# Altium schematic symbol library SiLabs Microcontroller 8-Bit 8051.SchLib: 120 symbols (part 6 of 9)
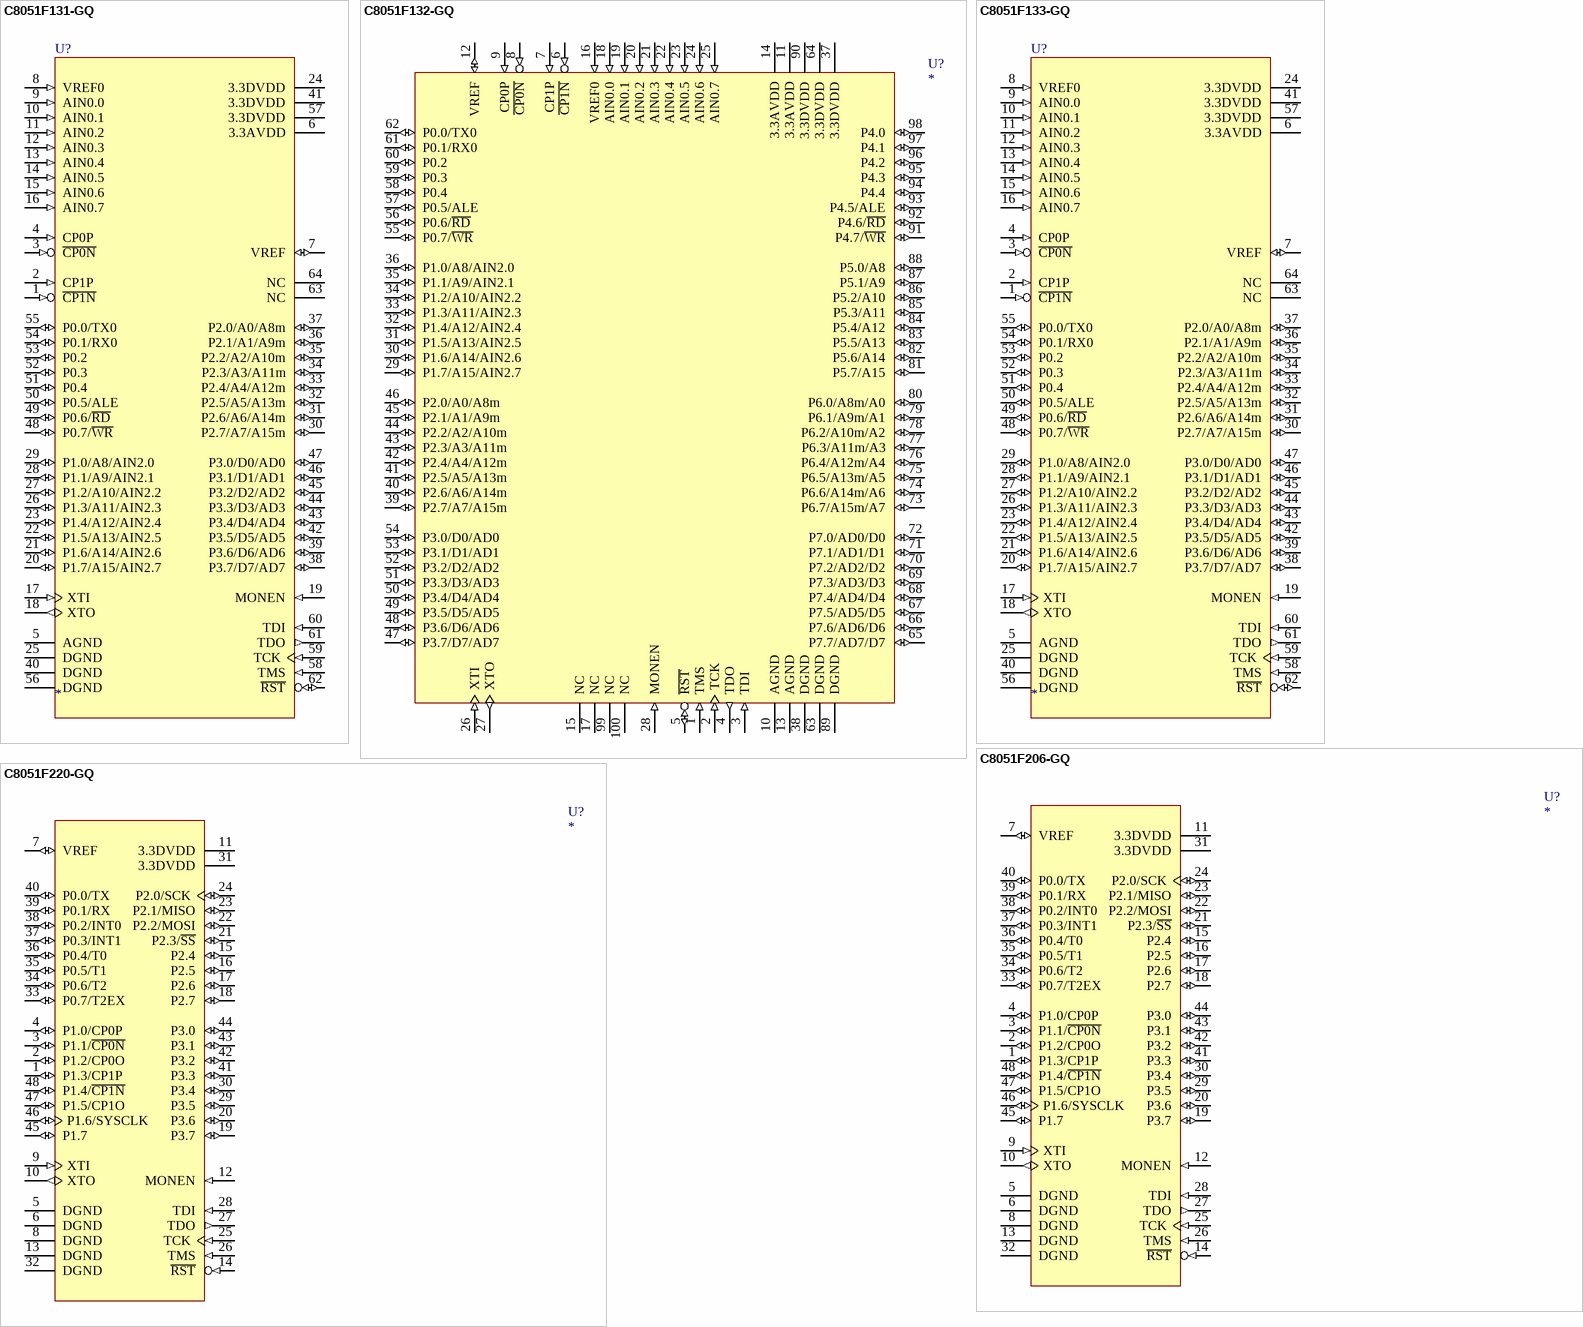
[diagram p19: symbols C8051F131-GQ to C8051F220-GQ]

## C8051F131-GQ
designator U?
8051 Microcontroller, 100MIPS, 16x16MAC, 128KiB Flash, 256Byte RAM + 8KiB XRAM, 64KiB EMIF, Internal Oscillator, 5-16bit Timer, 8CH 100ksps 10bit ADC, 2 UART, I2C, SPI, PCA, 2 Comparator, 32GPIO.; Manufacture: Silicon Laboratories; Compliant: RoHS; CompliantInformationSource: Silicon Laboratries; PackageDocument: 2005-12; TempertureRange: Industrial (-40 to +85Cel); ComponentLink1Description: Manufacture Link; ComponentLink1URL: http://www.silabs.com/; ComponentLink2Description: Datasheet; ComponentLink2URL: https://www.silabs.com/Support Documents/TechnicalDocs/C8051F12x-13x.pdf; DatasheetDocument: Rev. 1.4, 2005-12; PackageReference: TQFP-64; Published: 2006-02-21; Publisher: A and A System Co., Ltd.; DigiKeyPartNumber: 336-1233-ND
footprint TQFP-64/e0.5 (TQFP-64; Body Width 12mm; Pitch 0.5mm)
pins: 1 ~{CP1N} (in) "Comparator 1 Inverting Input.", 2 CP1P (in) "Comparator 1 Non-Inverting Input.", 3 ~{CP0N} (in) "Comparator 0 Inverting Input.", 4 CP0P (in) "Comparator 0 Non-Inverting Input.", 5 AGND (power) "Analog Ground. Must be tied to Ground.", 6 3.3AVDD (power) "Analog Supply Voltage. Must be tied to +2.7 to +3.6 V.", 7 VREF (io) "Bandgap Voltage Reference Output (all devices). DAC Voltage Reference Input (C8051F121/3/5/7 only).", 8 VREF0 (in) "ADC0 Voltage Reference Input.", 9 AIN0.0 (in) "ADC0 Input Channel 0 (See ADC0 Specification for complete description).", 10 AIN0.1 (in) "ADC0 Input Channel 1 (See ADC0 Specification for complete description).", 11 AIN0.2 (in) "ADC0 Input Channel 2 (See ADC0 Specification for complete description).", 12 AIN0.3 (in) "ADC0 Input Channel 3 (See ADC0 Specification for complete description).", 13 AIN0.4 (in) "ADC0 Input Channel 4 (See ADC0 Specification for complete description).", 14 AIN0.5 (in) "ADC0 Input Channel 5 (See ADC0 Specification for complete description).", 15 AIN0.6 (in) "ADC0 Input Channel 6 (See ADC0 Specification for complete description).", 16 AIN0.7 (in) "ADC0 Input Channel 7 (See ADC0 Specification for complete description).", 17 XTI (in) "Crystal Input. This pin is the return for the internal oscillator circuit for a crystal or ceramic resonator. For a precision internal clock, connect a crystal or ceramic resonator from XTAL1 to XTAL2. If overdriven by an external CMOS clock, this become", 18 XTO (out) "Crystal Output. This pin is the excitation driver for a crystal or ceramic resonator.", 19 MONEN (in) "VDD Monitor Enable. When tied high, this pin enables the internal VDD monitor, which forces a system reset when VDD is < VRST. When tied low, the internal VDD monitor is disabled. This pin must be tied high or low.", 20 P1.7/A15/AIN2.7 (io) "Port 1.7. See Port Input/Output section for complete description.", 21 P1.6/A14/AIN2.6 (io) "Port 1.6. See Port Input/Output section for complete description.", 22 P1.5/A13/AIN2.5 (io) "Port 1.5. See Port Input/Output section for complete  !description.", 23 P1.4/A12/AIN2.4 (io) "Port 1.4. See Port Input/Output section for complete description.", 24 3.3DVDD (power) "Digital Supply Voltage. Must be tied to +2.7 to +3.6 V.", 25 DGND (power) "Digital Ground. Must be tied to Ground.", 26 P1.3/A11/AIN2.3 (io) "Port 1.3. See Port Input/Output section for complete description.", 27 P1.2/A10/AIN2.2 (io) "Port 1.2. See Port Input/Output section for complete description.", 28 P1.1/A9/AIN2.1 (io) "Port 1.1. See Port Input/Output section for complete description.", 29 P1.0/A8/AIN2.0 (io) "ADC2 Input Channel 0 (See ADC2 Specification for complete description). Bit 8 External Memory Address bus (Non-multiplexed  mode)  Port 1.0 See Port Input/Output section for complete description.", 30 P2.7/A7/A15m (io) "Port 2.7. See Port Input/Output section for complete description.", 31 P2.6/A6/A14m (io) "Port 2.6. See Port Input/Output section for complete description.", 32 P2.5/A5/A13m (io) "Port 2.5. See Port Input/Output section for complete description.", 33 P2.4/A4/A12m (io) "Port 2.4. See Port Input/Output section for complete description.", 34 P2.3/A3/A11m (io) "Port 2.3. See Port Input/Output section for complete description.", 35 P2.2/A2/A10m (io) "Port 2.2. See Port Input/Output section for complete description.", 36 P2.1/A1/A9m (io) "Port 2.1. See Port Input/Output section for complete description.", 37 P2.0/A0/A8m (io) "Port 2.0. Bit 8 External Memory Address bus (Multiplexed mode) Bit 0 External Memory Address bus (Non-multiplexed mode) See Port Input/Output section for complete description.", 38 P3.7/D7/AD7 (io) "Port 3.7. See Port Input/Output section for complete description.", 39 P3.6/D6/AD6 (io) "OPort 3.6. See Port Input/Output section for complete description.", 40 DGND (power) "Digital Ground. Must be tied to Ground.", 41 3.3DVDD (power) "Digital Supply Voltage. Must be tied to +2.7 to +3.6 V.", 42 P3.5/D5/AD5 (io) "Port 3.5. See Port Input/Output section for complete description.", 43 P3.4/D4/AD4 (io) "OPort 3.4. See Port Input/Output section for complete description.", 44 P3.3/D3/AD3 (io) "OPort 3.3. See Port Input/Output section for complete description.", 45 P3.2/D2/AD2 (io) "OPort 3.2. See Port Input/Output section for complete description.", 46 P3.1/D1/AD1 (io) "OPort 3.1. See Port Input/Output section for complete description.", 47 P3.0/D0/AD0 (io) "Port 3.0. Bit 0 External Memory Address/Data bus (Multiplexed  mode)  Bit 0 External Memory Data bus (Non-multiplexed  mode) See Port Input/Output section for complete description.", 48 P0.7/~{WR} (io) "Port 0.7, WR Strobe for External Memory Address bus. See Port Input/Output section for complete description.", 49 P0.6/~{RD} (io) "Port 0.6, RD Strobe for External Memory Address bus. See Port Input/Output section for complete description.", 50 P0.5/ALE (io) "Port 0.5. ALE Strobe for External Memory Address bus (multiplexed mode) See Port Input/Output section for complete description.", 51 P0.4 (io) "Port 0.4. See Port Input/Output section for complete description.", 52 P0.3 (io) "Port 0.3. See Port Input/Output section for complete description.", 53 P0.2 (io) "Port 0.2. See Port Input/Output section for complete description.", 54 P0.1/RX0 (io) "Port 0.1. See Port Input/Output section for complete description.", 55 P0.0/TX0 (io) "Port 0.0. See Port Input/Output section for complete description.", 56 DGND (power) "Digital Ground. Must be tied to Ground.", 57 3.3DVDD (power) "Digital Supply Voltage. Must be tied to +2.7 to +3.6 V.", 58 TMS (in) "JTAG Test Mode Select with internal pullup.", 59 TCK (in) "JTAG Test Clock with internal pullup.", 60 TDI (in) "JTAG Test Data Input with internal pullup.TDI is latched on the rising edge of TCK.", 61 TDO (out) "JTAG Test Data Output with internal pullup. Data is shifted out on TDO on the falling edge of TCK.  TDO output is a tri-state driver.", 62 ~{RST} (io) "Device Reset. Open-drain output of internal VDD monitor. Is driven low when VDD is < VRST and  MONEN is high. An external source can initiate  a system reset by driving this pin low.", 63 NC "No Connection.", 64 NC "No Connection."

## C8051F132-GQ
designator U?
8051 Microcontroller, 100MIPS, 16x16MAC, 64KiB Flash, 256Byte RAM + 8KiB XRAM, 64KiB EMIF, Internal Oscillator, 5-16bit Timer, 8CH 100ksps 10bit ADC, 2 UART, I2C, SPI, PCA, 2 Comparator, 64GPIO.; Manufacture: Silicon Laboratories; Compliant: RoHS; CompliantInformationSource: Silicon Laboratries; PackageDocument: 2005-12; TempertureRange: Industrial (-40 to +85Cel); ComponentLink1Description: Manufacture Link; ComponentLink1URL: http://www.silabs.com/; ComponentLink2Description: Datasheet; ComponentLink2URL: https://www.silabs.com/Support Documents/TechnicalDocs/C8051F12x-13x.pdf; DatasheetDocument: Rev. 1.4, 2005-12; PackageReference: TQFP-100; Published: 2006-02-21; Publisher: A and A System Co., Ltd.; DigiKeyPartNumber: 336-1234-ND
footprint TQFP-100/e0.5 (TQFP-100; Body Width 16mm; Pitch 0.5mm)
pins: 1 TMS (in) "JTAG Test Mode Select with internal pullup.", 2 TCK (in) "JTAG Test Clock with internal pullup.", 3 TDI (in) "JTAG Test Data Input with internal pullup.TDI is latched on the rising edge of TCK.", 4 TDO (out) "JTAG Test Data Output with internal pullup. Data is shifted out on TDO on the falling edge of TCK.  TDO output is a tri-state driver.", 5 ~{RST} (io) "Device Reset. Open-drain output of internal VDD monitor. Is driven low when VDD is < VRST and  MONEN is high. An external source can initiate  a system reset by driving this pin low.", 6 ~{CP1N} (in) "Comparator 1 Inverting Input.", 7 CP1P (in) "Comparator 1 Non-Inverting Input.", 8 ~{CP0N} (in) "Comparator 0 Inverting Input.", 9 CP0P (in) "Comparator 0 Non-Inverting Input.", 10 AGND (power) "Analog Ground. Must be tied to Ground.", 11 3.3AVDD (power) "Analog Supply Voltage. Must be tied to +2.7 to +3.6 V.", 12 VREF (io) "Bandgap Voltage Reference Output (all devices). DAC Voltage Reference Input (C8051F121/3/5/7 only).", 13 AGND (power) "Analog Ground. Must be tied to Ground.", 14 3.3AVDD (power) "Analog Supply Voltage. Must be tied to +2.7 to +3.6 V.", 15 NC, 16 VREF0 (in) "ADC0 Voltage Reference Input.", 17 NC, 18 AIN0.0 (in) "ADC0 Input Channel 0 (See ADC0 Specification for complete description).", 19 AIN0.1 (in) "ADC0 Input Channel 1 (See ADC0 Specification for complete description).", 20 AIN0.2 (in) "ADC0 Input Channel 2 (See ADC0 Specification for complete description).", 21 AIN0.3 (in) "ADC0 Input Channel 3 (See ADC0 Specification for complete description).", 22 AIN0.4 (in) "ADC0 Input Channel 4 (See ADC0 Specification for complete description).", 23 AIN0.5 (in) "ADC0 Input Channel 5 (See ADC0 Specification for complete description).", 24 AIN0.6 (in) "ADC0 Input Channel 6 (See ADC0 Specification for complete description).", 25 AIN0.7 (in) "ADC0 Input Channel 7 (See ADC0 Specification for complete description).", 26 XTI (in) "Crystal Input. This pin is the return for the internal oscillator circuit for a crystal or ceramic resonator. For a precision internal clock, connect a crystal or ceramic resonator from XTAL1 to XTAL2. If overdriven by an external CMOS clock, this become", 27 XTO (out) "Crystal Output. This pin is the excitation driver for a crystal or ceramic resonator.", 28 MONEN (in) "VDD Monitor Enable. When tied high, this pin enables the internal VDD monitor, which forces a system reset when VDD is < VRST. When tied low, the internal VDD monitor is disabled. This pin must be tied high or low.", 29 P1.7/A15/AIN2.7 (io) "Port 1.7. See Port Input/Output section for complete description.", 30 P1.6/A14/AIN2.6 (io) "Port 1.6. See Port Input/Output section for complete description.", 31 P1.5/A13/AIN2.5 (io) "Port 1.5. See Port Input/Output section for complete  !description.", 32 P1.4/A12/AIN2.4 (io) "Port 1.4. See Port Input/Output section for complete description.", 33 P1.3/A11/AIN2.3 (io) "Port 1.3. See Port Input/Output section for complete description.", 34 P1.2/A10/AIN2.2 (io) "Port 1.2. See Port Input/Output section for complete description.", 35 P1.1/A9/AIN2.1 (io) "Port 1.1. See Port Input/Output section for complete description.", 36 P1.0/A8/AIN2.0 (io) "ADC2 Input Channel 0 (See ADC2 Specification for complete description). Bit 8 External Memory Address bus (Non-multiplexed  mode)  Port 1.0 See Port Input/Output section for complete description.", 37 3.3DVDD (power) "Digital Supply Voltage. Must be tied to +2.7 to +3.6 V.", 38 DGND (power) "Digital Ground. Must be tied to Ground.", 39 P2.7/A7/A15m (io) "Port 2.7. See Port Input/Output section for complete description.", 40 P2.6/A6/A14m (io) "Port 2.6. See Port Input/Output section for complete description.", 41 P2.5/A5/A13m (io) "Port 2.5. See Port Input/Output section for complete description.", 42 P2.4/A4/A12m (io) "Port 2.4. See Port Input/Output section for complete description.", 43 P2.3/A3/A11m (io) "Port 2.3. See Port Input/Output section for complete description.", 44 P2.2/A2/A10m (io) "Port 2.2. See Port Input/Output section for complete description.", 45 P2.1/A1/A9m (io) "Port 2.1. See Port Input/Output section for complete description.", 46 P2.0/A0/A8m (io) "Port 2.0. Bit 8 External Memory Address bus (Multiplexed mode) Bit 0 External Memory Address bus (Non-multiplexed mode) See Port Input/Output section for complete description.", 47 P3.7/D7/AD7 (io) "Port 3.7. See Port Input/Output section for complete description.", 48 P3.6/D6/AD6 (io) "OPort 3.6. See Port Input/Output section for complete description.", 49 P3.5/D5/AD5 (io) "Port 3.5. See Port Input/Output section for complete description.", 50 P3.4/D4/AD4 (io) "OPort 3.4. See Port Input/Output section for complete description.", 51 P3.3/D3/AD3 (io) "OPort 3.3. See Port Input/Output section for complete description.", 52 P3.2/D2/AD2 (io) "OPort 3.2. See Port Input/Output section for complete description.", 53 P3.1/D1/AD1 (io) "OPort 3.1. See Port Input/Output section for complete description.", 54 P3.0/D0/AD0 (io) "Port 3.0. Bit 0 External Memory Address/Data bus (Multiplexed  mode)  Bit 0 External Memory Data bus (Non-multiplexed  mode) See Port Input/Output section for complete description.", 55 P0.7/~{WR} (io) "Port 0.7. WR Strobe for External Memory Address bus. See Port Input/Output section for complete description.", 56 P0.6/~{RD} (io) "Port 0.6. RD Strobe for External Memory Address bus. See Port Input/Output section for complete description.", 57 P0.5/ALE (io) "Port 0.5. ALE Strobe for External Memory Address bus (multiplexed mode) See Port Input/Output section for complete description.", 58 P0.4 (io) "Port 0.4. See Port Input/Output section for complete description.", 59 P0.3 (io) "Port 0.3. See Port Input/Output section for complete description.", 60 P0.2 (io) "Port 0.2. See Port Input/Output section for complete description.", 61 P0.1/RX0 (io) "Port 0.1. See Port Input/Output section for complete description.", 62 P0.0/TX0 (io) "Port 0.0. See Port Input/Output section for complete description.", 63 DGND (power) "Digital Ground. Must be tied to Ground.", 64 3.3DVDD (power) "Digital Supply Voltage. Must be tied to +2.7 to +3.6 V.", 65 P7.7/AD7/D7 (io) "Port 7.7. See Port Input/Output section for complete description.", 66 P7.6/AD6/D6 (io) "Port 7.6. See Port Input/Output section for complete description.", 67 P7.5/AD5/D5 (io) "Port 7.5. See Port Input/Output section for complete description.", 68 P7.4/AD4/D4 (io) "Port 7.4. See Port Input/Output section for complete description.", 69 P7.3/AD3/D3 (io) "Port 7.3. See Port Input/Output section for complete description.", 70 P7.2/AD2/D2 (io) "Port 7.2. See Port Input/Output section for complete description.", 71 P7.1/AD1/D1 (io) "Port 7.1. See Port Input/Output section for complete description.", 72 P7.0/AD0/D0 (io) "Port 7.0. Bit 0 External Memory Address/Data bus (Multiplexed mode) Bit 0 External Memory Data bus (Non-multiplexed mode) See Port Input/Output section for complete description.", 73 P6.7/A15m/A7 (io) "Port 6.7. See Port Input/Output section for complete description.", 74 P6.6/A14m/A6 (io) "Port 6.6. See Port Input/Output section for complete description.", 75 P6.5/A13m/A5 (io) "Port 6.5. See Port Input/Output section for complete description.", 76 P6.4/A12m/A4 (io) "Port 6.4. See Port Input/Output section for complete description.", 77 P6.3/A11m/A3 (io) "Port 6.3. See Port Input/Output section for complete description.", 78 P6.2/A10m/A2 (io) "Port 6.2. See Port Input/Output section for complete description.", 79 P6.1/A9m/A1 (io) "Port 6.1. See Port Input/Output section for complete description.", 80 P6.0/A8m/A0 (io) "Port6.0. Bit 8 External Memory Address bus (Multiplexed mode) Bit 0 External Memory Address bus (Non-multiplexed mode) See Port Input/Output section for complete description.", 81 P5.7/A15 (io) "Port 5.7. See Port Input/Output section for complete description.", 82 P5.6/A14 (io) "Port 5.6. See Port Input/Output section for complete description.", 83 P5.5/A13 (io) "Port 5.5. See Port Input/Output section for complete description.", 84 P5.4/A12 (io) "Port 5.4. See Port Input/Output section for complete description.", 85 P5.3/A11 (io) "Port 5.3. See Port Input/Output section for complete description.", 86 P5.2/A10 (io) "Port 5.2. See Port Input/Output section for complete description.", 87 P5.1/A9 (io) "Port 5.1. See Port Input/Output section for complete description.", 88 P5.0/A8 (io) "Port 5.0. Bit 8 External Memory Address bus (Non-multiplexed mode) See Port Input/Output section for complete description.", 89 DGND (power) "Digital Ground. Must be tied to Ground.", 90 3.3DVDD (power) "Digital Supply Voltage. Must be tied to +2.7 to +3.6 V.", 91 P4.7/~{WR} (io) "Port 4.7. WR Strobe for External Memory Address bus. See Port Input/Output section for complete description.", 92 P4.6/~{RD} (io) "P4.6. RD Strobe for External Memory Address bus. See Port Input/Output section for complete description.", 93 P4.5/ALE (io) "Port 4.5, ALE Strobe for External Memory Address bus (multiplexed mode) See Port Input/Output section for complete description.", 94 P4.4 (io) "Port 4.4. See Port Input/Output section for complete description.", 95 P4.3 (io) "Port 4.3. See Port Input/Output section for complete description.", 96 P4.2 (io) "Port 4.2. See Port Input/Output section for complete description.", 97 P4.1 (io) "Port 4.1. See Port Input/Output section for complete description.", 98 P4.0 (io) "Port 4.0. See Port Input/Output section for complete description.", 99 NC, 100 NC

## C8051F133-GQ
designator U?
8051 Microcontroller, 100MIPS, 16x16MAC, 64KiB Flash, 256Byte RAM + 8KiB XRAM, 64KiB EMIF, Internal Oscillator, 5-16bit Timer, 8CH 100ksps 10bit ADC, 2 UART, I2C, SPI, PCA, 2 Comparator, 32GPIO.; Manufacture: Silicon Laboratories; Compliant: RoHS; CompliantInformationSource: Silicon Laboratries; PackageDocument: 2005-12; TempertureRange: Industrial (-40 to +85Cel); ComponentLink1Description: Manufacture Link; ComponentLink1URL: http://www.silabs.com/; ComponentLink2Description: Datasheet; ComponentLink2URL: https://www.silabs.com/Support Documents/TechnicalDocs/C8051F12x-13x.pdf; DatasheetDocument: Rev. 1.4, 2005-12; PackageReference: TQFP-64; Published: 2006-02-21; Publisher: A and A System Co., Ltd.; DigiKeyPartNumber: 336-1235-ND
footprint TQFP-64/e0.5 (TQFP-64; Body Width 12mm; Pitch 0.5mm)
pins: 1 ~{CP1N} (in) "Comparator 1 Inverting Input.", 2 CP1P (in) "Comparator 1 Non-Inverting Input.", 3 ~{CP0N} (in) "Comparator 0 Inverting Input.", 4 CP0P (in) "Comparator 0 Non-Inverting Input.", 5 AGND (power) "Analog Ground. Must be tied to Ground.", 6 3.3AVDD (power) "Analog Supply Voltage. Must be tied to +2.7 to +3.6 V.", 7 VREF (io) "Bandgap Voltage Reference Output (all devices). DAC Voltage Reference Input (C8051F121/3/5/7 only).", 8 VREF0 (in) "ADC0 Voltage Reference Input.", 9 AIN0.0 (in) "ADC0 Input Channel 0 (See ADC0 Specification for complete description).", 10 AIN0.1 (in) "ADC0 Input Channel 1 (See ADC0 Specification for complete description).", 11 AIN0.2 (in) "ADC0 Input Channel 2 (See ADC0 Specification for complete description).", 12 AIN0.3 (in) "ADC0 Input Channel 3 (See ADC0 Specification for complete description).", 13 AIN0.4 (in) "ADC0 Input Channel 4 (See ADC0 Specification for complete description).", 14 AIN0.5 (in) "ADC0 Input Channel 5 (See ADC0 Specification for complete description).", 15 AIN0.6 (in) "ADC0 Input Channel 6 (See ADC0 Specification for complete description).", 16 AIN0.7 (in) "ADC0 Input Channel 7 (See ADC0 Specification for complete description).", 17 XTI (in) "Crystal Input. This pin is the return for the internal oscillator circuit for a crystal or ceramic resonator. For a precision internal clock, connect a crystal or ceramic resonator from XTAL1 to XTAL2. If overdriven by an external CMOS clock, this become", 18 XTO (out) "Crystal Output. This pin is the excitation driver for a crystal or ceramic resonator.", 19 MONEN (in) "VDD Monitor Enable. When tied high, this pin enables the internal VDD monitor, which forces a system reset when VDD is < VRST. When tied low, the internal VDD monitor is disabled. This pin must be tied high or low.", 20 P1.7/A15/AIN2.7 (io) "Port 1.7. See Port Input/Output section for complete description.", 21 P1.6/A14/AIN2.6 (io) "Port 1.6. See Port Input/Output section for complete description.", 22 P1.5/A13/AIN2.5 (io) "Port 1.5. See Port Input/Output section for complete  !description.", 23 P1.4/A12/AIN2.4 (io) "Port 1.4. See Port Input/Output section for complete description.", 24 3.3DVDD (power) "Digital Supply Voltage. Must be tied to +2.7 to +3.6 V.", 25 DGND (power) "Digital Ground. Must be tied to Ground.", 26 P1.3/A11/AIN2.3 (io) "Port 1.3. See Port Input/Output section for complete description.", 27 P1.2/A10/AIN2.2 (io) "Port 1.2. See Port Input/Output section for complete description.", 28 P1.1/A9/AIN2.1 (io) "Port 1.1. See Port Input/Output section for complete description.", 29 P1.0/A8/AIN2.0 (io) "ADC2 Input Channel 0 (See ADC2 Specification for complete description). Bit 8 External Memory Address bus (Non-multiplexed  mode)  Port 1.0 See Port Input/Output section for complete description.", 30 P2.7/A7/A15m (io) "Port 2.7. See Port Input/Output section for complete description.", 31 P2.6/A6/A14m (io) "Port 2.6. See Port Input/Output section for complete description.", 32 P2.5/A5/A13m (io) "Port 2.5. See Port Input/Output section for complete description.", 33 P2.4/A4/A12m (io) "Port 2.4. See Port Input/Output section for complete description.", 34 P2.3/A3/A11m (io) "Port 2.3. See Port Input/Output section for complete description.", 35 P2.2/A2/A10m (io) "Port 2.2. See Port Input/Output section for complete description.", 36 P2.1/A1/A9m (io) "Port 2.1. See Port Input/Output section for complete description.", 37 P2.0/A0/A8m (io) "Port 2.0. Bit 8 External Memory Address bus (Multiplexed mode) Bit 0 External Memory Address bus (Non-multiplexed mode) See Port Input/Output section for complete description.", 38 P3.7/D7/AD7 (io) "Port 3.7. See Port Input/Output section for complete description.", 39 P3.6/D6/AD6 (io) "OPort 3.6. See Port Input/Output section for complete description.", 40 DGND (power) "Digital Ground. Must be tied to Ground.", 41 3.3DVDD (power) "Digital Supply Voltage. Must be tied to +2.7 to +3.6 V.", 42 P3.5/D5/AD5 (io) "Port 3.5. See Port Input/Output section for complete description.", 43 P3.4/D4/AD4 (io) "OPort 3.4. See Port Input/Output section for complete description.", 44 P3.3/D3/AD3 (io) "OPort 3.3. See Port Input/Output section for complete description.", 45 P3.2/D2/AD2 (io) "OPort 3.2. See Port Input/Output section for complete description.", 46 P3.1/D1/AD1 (io) "OPort 3.1. See Port Input/Output section for complete description.", 47 P3.0/D0/AD0 (io) "Port 3.0. Bit 0 External Memory Address/Data bus (Multiplexed  mode)  Bit 0 External Memory Data bus (Non-multiplexed  mode) See Port Input/Output section for complete description.", 48 P0.7/~{WR} (io) "Port 0.7, WR Strobe for External Memory Address bus. See Port Input/Output section for complete description.", 49 P0.6/~{RD} (io) "Port 0.6, RD Strobe for External Memory Address bus. See Port Input/Output section for complete description.", 50 P0.5/ALE (io) "Port 0.5. ALE Strobe for External Memory Address bus (multiplexed mode) See Port Input/Output section for complete description.", 51 P0.4 (io) "Port 0.4. See Port Input/Output section for complete description.", 52 P0.3 (io) "Port 0.3. See Port Input/Output section for complete description.", 53 P0.2 (io) "Port 0.2. See Port Input/Output section for complete description.", 54 P0.1/RX0 (io) "Port 0.1. See Port Input/Output section for complete description.", 55 P0.0/TX0 (io) "Port 0.0. See Port Input/Output section for complete description.", 56 DGND (power) "Digital Ground. Must be tied to Ground.", 57 3.3DVDD (power) "Digital Supply Voltage. Must be tied to +2.7 to +3.6 V.", 58 TMS (in) "JTAG Test Mode Select with internal pullup.", 59 TCK (in) "JTAG Test Clock with internal pullup.", 60 TDI (in) "JTAG Test Data Input with internal pullup.TDI is latched on the rising edge of TCK.", 61 TDO (out) "JTAG Test Data Output with internal pullup. Data is shifted out on TDO on the falling edge of TCK.  TDO output is a tri-state driver.", 62 ~{RST} (io) "Device Reset. Open-drain output of internal VDD monitor. Is driven low when VDD is < VRST and  MONEN is high. An external source can initiate  a system reset by driving this pin low.", 63 NC "No Connection.", 64 NC "No Connection."

## C8051F206-GQ
designator U?
8051 Microcontroller, 25MIPS, 8KiB Flash, 256Byte RAM + 1KiB XRAM, Internal Oscillator, 3-16bit Timer, 32CH 100ksps 12bit ADC, UART, SPI, 2 Comparator, 32GPIO.; Manufacture: Silicon Laboratories; Compliant: RoHS; CompliantInformationSource: Silicon Laboratries; PackageDocument: 2005-03; TempertureRange: Industrial (-40 to +85Cel); ComponentLink1Description: Manufacture Link; ComponentLink1URL: http://www.silabs.com/; ComponentLink2Description: Datasheet; ComponentLink2URL: https://www.silabs.com/Support Documents/TechnicalDocs/C8051F0xx.pdf; DatasheetDocument: Rev. 1.6, 2005-03; PackageReference: TQFP-48; Published: 2008-09-17; Publisher: A and A System Co., Ltd.; DigiKeyPartNumber: 336-1236-ND
footprint TQFP-48/e0.5 (TQFP-48; JEDEC MS-026ABC; Body 7.00x7.00x1.20mm; Pitch 0.5mm;)
pins: 1 P1.3/CP1P (io), 2 P1.2/CP0O (io), 3 P1.1/~{CP0N} (io), 4 P1.0/CP0P (io), 5 DGND (power), 6 DGND (power), 7 VREF (io), 8 DGND (power), 9 XTI (in), 10 XTO (out), 11 3.3DVDD (power), 12 MONEN (in), 13 DGND (power), 14 ~{RST} (in), 15 P2.4 (io), 16 P2.5 (io), 17 P2.6 (io), 18 P2.7 (io), 19 P3.7 (io), 20 P3.6 (io), 21 P2.3/~{SS} (io), 22 P2.2/MOSI (io), 23 P2.1/MISO (io), 24 P2.0/SCK (io), 25 TCK (in), 26 TMS (in), 27 TDO (out), 28 TDI (in), 29 P3.5 (io), 30 P3.4 (io), 31 3.3DVDD (power), 32 DGND (power), 33 P0.7/T2EX (io), 34 P0.6/T2 (io), 35 P0.5/T1 (io), 36 P0.4/T0 (io), 37 P0.3/INT1 (io), 38 P0.2/INT0 (io), 39 P0.1/RX (io), 40 P0.0/TX (io), 41 P3.3 (io), 42 P3.2 (io), 43 P3.1 (io), 44 P3.0 (io), 45 P1.7 (io), 46 P1.6/SYSCLK (io), 47 P1.5/CP1O (io), 48 P1.4/~{CP1N} (io)

## C8051F220-GQ
designator U?
8051 Microcontroller, 25MIPS, 8KiB Flash, 256Byte RAM, Internal Oscillator, 3-16bit Timer, 32CH 100ksps 8bit ADC, UART, SPI, 2 Comparator, 32GPIO.; Manufacture: Silicon Laboratories; Compliant: RoHS; CompliantInformationSource: Silicon Laboratries; PackageDocument: 2005-03; TempertureRange: Industrial (-40 to +85Cel); ComponentLink1Description: Manufacture Link; ComponentLink1URL: http://www.silabs.com/; ComponentLink2Description: Datasheet; ComponentLink2URL: https://www.silabs.com/Support Documents/TechnicalDocs/C8051F2xx.pdf; DatasheetDocument: Rev. 1.6, 2005-03; PackageReference: TQFP-48; Published: 2008-09-17; Publisher: A and A System Co., Ltd.; DigiKeyPartNumber: 336-1238-ND
footprint TQFP-48/e0.5 (TQFP-48; JEDEC MS-026ABC; Body 7.00x7.00x1.20mm; Pitch 0.5mm;)
pins: 1 P1.3/CP1P (io), 2 P1.2/CP0O (io), 3 P1.1/~{CP0N} (io), 4 P1.0/CP0P (io), 5 DGND (power), 6 DGND (power), 7 VREF (io), 8 DGND (power), 9 XTI (in), 10 XTO (out), 11 3.3DVDD (power), 12 MONEN (in), 13 DGND (power), 14 ~{RST} (in), 15 P2.4 (io), 16 P2.5 (io), 17 P2.6 (io), 18 P2.7 (io), 19 P3.7 (io), 20 P3.6 (io), 21 P2.3/~{SS} (io), 22 P2.2/MOSI (io), 23 P2.1/MISO (io), 24 P2.0/SCK (io), 25 TCK (in), 26 TMS (in), 27 TDO (out), 28 TDI (in), 29 P3.5 (io), 30 P3.4 (io), 31 3.3DVDD (power), 32 DGND (power), 33 P0.7/T2EX (io), 34 P0.6/T2 (io), 35 P0.5/T1 (io), 36 P0.4/T0 (io), 37 P0.3/INT1 (io), 38 P0.2/INT0 (io), 39 P0.1/RX (io), 40 P0.0/TX (io), 41 P3.3 (io), 42 P3.2 (io), 43 P3.1 (io), 44 P3.0 (io), 45 P1.7 (io), 46 P1.6/SYSCLK (io), 47 P1.5/CP1O (io), 48 P1.4/~{CP1N} (io)

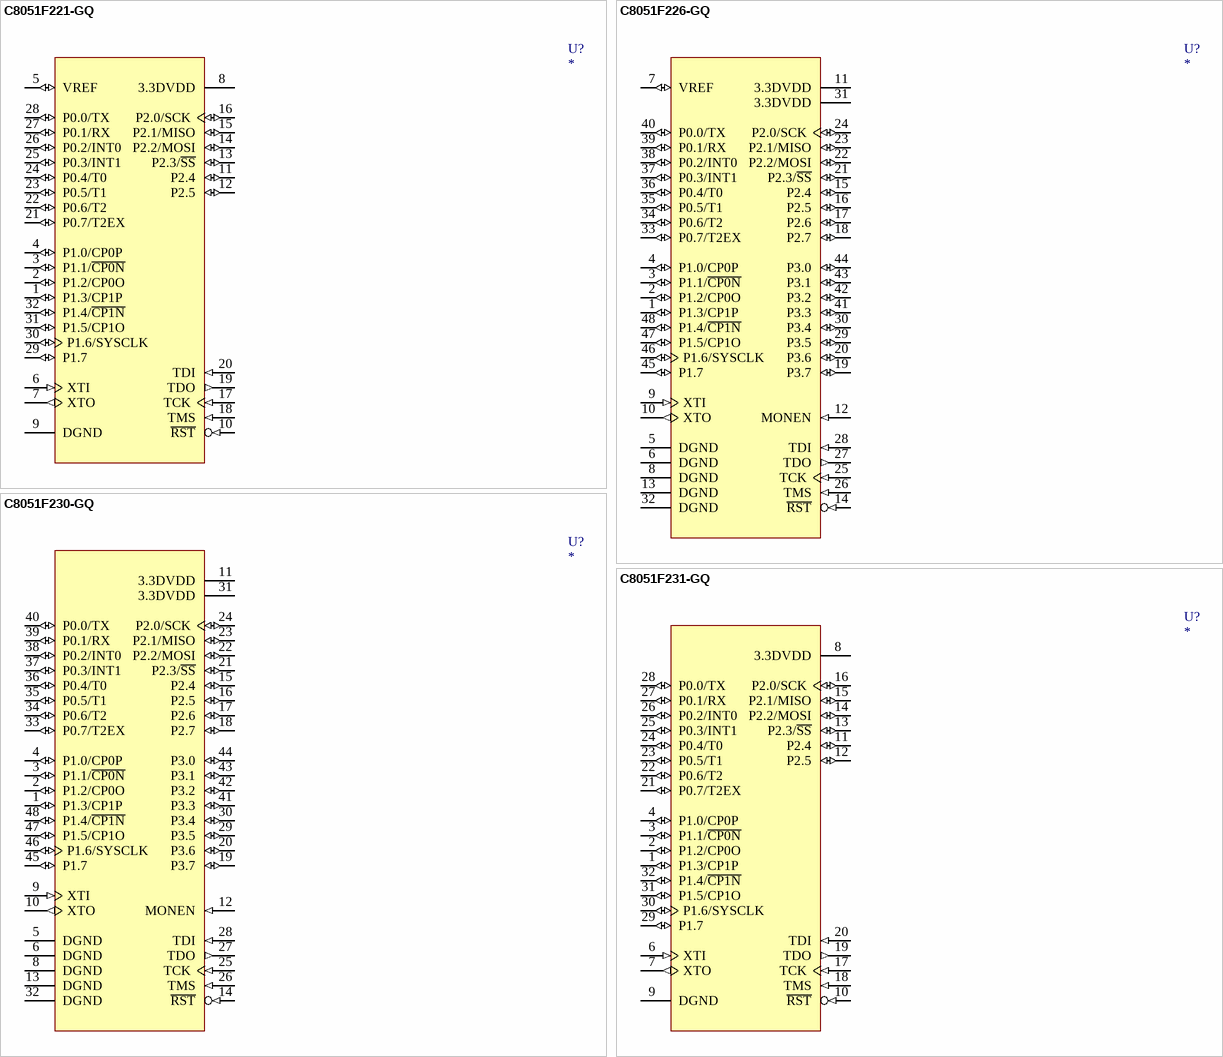
[diagram p10: symbols C8051F221-GQ to C8051F231-GQ]

## C8051F221-GQ
designator U?
8051 Microcontroller, 25MIPS, 8KiB Flash, 256Byte RAM, Internal Oscillator, 3-16bit Timer, 32CH 100ksps 8bit ADC, UART, SPI, 2 Comparator, 22GPIO.; Manufacture: Silicon Laboratories; Compliant: RoHS; CompliantInformationSource: Silicon Laboratries; PackageDocument: 2005-03; TempertureRange: Industrial (-40 to +85Cel); ComponentLink1Description: Manufacture Link; ComponentLink1URL: http://www.silabs.com/; ComponentLink2Description: Datasheet; ComponentLink2URL: https://www.silabs.com/Support Documents/TechnicalDocs/C8051F2xx.pdf; DatasheetDocument: Rev. 1.6, 2005-03; PackageReference: LQFP-32; Published: 2008-09-17; Publisher: A and A System Co., Ltd.; DigiKeyPartNumber: 336-1239-ND
footprint LQFP-32/e0.8 (LQFP-32; JEDEC MS-026BBA; Body 7.00x7.00x1.60mm; Pitch 0.8mm;)
pins: 1 P1.3/CP1P (io), 2 P1.2/CP0O (io), 3 P1.1/~{CP0N} (io), 4 P1.0/CP0P (io), 5 VREF (io), 6 XTI (in), 7 XTO (out), 8 3.3DVDD (power), 9 DGND (power), 10 ~{RST} (in), 11 P2.4 (io), 12 P2.5 (io), 13 P2.3/~{SS} (io), 14 P2.2/MOSI (io), 15 P2.1/MISO (io), 16 P2.0/SCK (io), 17 TCK (in), 18 TMS (in), 19 TDO (out), 20 TDI (in), 21 P0.7/T2EX (io), 22 P0.6/T2 (io), 23 P0.5/T1 (io), 24 P0.4/T0 (io), 25 P0.3/INT1 (io), 26 P0.2/INT0 (io), 27 P0.1/RX (io), 28 P0.0/TX (io), 29 P1.7 (io), 30 P1.6/SYSCLK (io), 31 P1.5/CP1O (io), 32 P1.4/~{CP1N} (io)

## C8051F226-GQ
designator U?
8051 Microcontroller, 25MIPS, 8KiB Flash, 256Byte RAM + 1KiB XRAM, Internal Oscillator, 3-16bit Timer, 32CH 100ksps 8bit ADC, UART, SPI, 2 Comparator, 32GPIO.; Manufacture: Silicon Laboratories; Compliant: RoHS; CompliantInformationSource: Silicon Laboratries; PackageDocument: 2005-03; TempertureRange: Industrial (-40 to +85Cel); ComponentLink1Description: Manufacture Link; ComponentLink1URL: http://www.silabs.com/; ComponentLink2Description: Datasheet; ComponentLink2URL: https://www.silabs.com/Support Documents/TechnicalDocs/C8051F0xx.pdf; DatasheetDocument: Rev. 1.6, 2005-03; PackageReference: TQFP-48; Published: 2008-09-17; Publisher: A and A System Co., Ltd.; DigiKeyPartNumber: 336-1240-ND
footprint TQFP-48/e0.5 (TQFP-48; JEDEC MS-026ABC; Body 7.00x7.00x1.20mm; Pitch 0.5mm;)
pins: 1 P1.3/CP1P (io), 2 P1.2/CP0O (io), 3 P1.1/~{CP0N} (io), 4 P1.0/CP0P (io), 5 DGND (power), 6 DGND (power), 7 VREF (io), 8 DGND (power), 9 XTI (in), 10 XTO (out), 11 3.3DVDD (power), 12 MONEN (in), 13 DGND (power), 14 ~{RST} (in), 15 P2.4 (io), 16 P2.5 (io), 17 P2.6 (io), 18 P2.7 (io), 19 P3.7 (io), 20 P3.6 (io), 21 P2.3/~{SS} (io), 22 P2.2/MOSI (io), 23 P2.1/MISO (io), 24 P2.0/SCK (io), 25 TCK (in), 26 TMS (in), 27 TDO (out), 28 TDI (in), 29 P3.5 (io), 30 P3.4 (io), 31 3.3DVDD (power), 32 DGND (power), 33 P0.7/T2EX (io), 34 P0.6/T2 (io), 35 P0.5/T1 (io), 36 P0.4/T0 (io), 37 P0.3/INT1 (io), 38 P0.2/INT0 (io), 39 P0.1/RX (io), 40 P0.0/TX (io), 41 P3.3 (io), 42 P3.2 (io), 43 P3.1 (io), 44 P3.0 (io), 45 P1.7 (io), 46 P1.6/SYSCLK (io), 47 P1.5/CP1O (io), 48 P1.4/~{CP1N} (io)

## C8051F230-GQ
designator U?
8051 Microcontroller, 25MIPS, 8KiB Flash, 256Byte RAM, Internal Oscillator, 3-16bit Timer, UART, SPI, 2 Comparator, 32GPIO.; Manufacture: Silicon Laboratories; Compliant: RoHS; CompliantInformationSource: Silicon Laboratries; PackageDocument: 2005-03; TempertureRange: Industrial (-40 to +85Cel); ComponentLink1Description: Manufacture Link; ComponentLink1URL: http://www.silabs.com/; ComponentLink2Description: Datasheet; ComponentLink2URL: https://www.silabs.com/Support Documents/TechnicalDocs/C8051F2xx.pdf; DatasheetDocument: Rev. 1.6, 2005-03; PackageReference: TQFP-48; Published: 2008-09-17; Publisher: A and A System Co., Ltd.; DigiKeyPartNumber: 336-1242-ND
footprint TQFP-48/e0.5 (TQFP-48; JEDEC MS-026ABC; Body 7.00x7.00x1.20mm; Pitch 0.5mm;)
pins: 1 P1.3/CP1P (io), 2 P1.2/CP0O (io), 3 P1.1/~{CP0N} (io), 4 P1.0/CP0P (io), 5 DGND (power), 6 DGND (power), 8 DGND (power), 9 XTI (in), 10 XTO (out), 11 3.3DVDD (power), 12 MONEN (in), 13 DGND (power), 14 ~{RST} (in), 15 P2.4 (io), 16 P2.5 (io), 17 P2.6 (io), 18 P2.7 (io), 19 P3.7 (io), 20 P3.6 (io), 21 P2.3/~{SS} (io), 22 P2.2/MOSI (io), 23 P2.1/MISO (io), 24 P2.0/SCK (io), 25 TCK (in), 26 TMS (in), 27 TDO (out), 28 TDI (in), 29 P3.5 (io), 30 P3.4 (io), 31 3.3DVDD (power), 32 DGND (power), 33 P0.7/T2EX (io), 34 P0.6/T2 (io), 35 P0.5/T1 (io), 36 P0.4/T0 (io), 37 P0.3/INT1 (io), 38 P0.2/INT0 (io), 39 P0.1/RX (io), 40 P0.0/TX (io), 41 P3.3 (io), 42 P3.2 (io), 43 P3.1 (io), 44 P3.0 (io), 45 P1.7 (io), 46 P1.6/SYSCLK (io), 47 P1.5/CP1O (io), 48 P1.4/~{CP1N} (io)

## C8051F231-GQ
designator U?
8051 Microcontroller, 25MIPS, 8KiB Flash, 256Byte RAM, Internal Oscillator, 3-16bit Timer, UART, SPI, 2 Comparator, 22GPIO.; Manufacture: Silicon Laboratories; Compliant: RoHS; CompliantInformationSource: Silicon Laboratries; PackageDocument: 2005-03; TempertureRange: Industrial (-40 to +85Cel); ComponentLink1Description: Manufacture Link; ComponentLink1URL: http://www.silabs.com/; ComponentLink2Description: Datasheet; ComponentLink2URL: https://www.silabs.com/Support Documents/TechnicalDocs/C8051F2xx.pdf; DatasheetDocument: Rev. 1.6, 2005-03; PackageReference: LQFP-32; Published: 2008-09-17; Publisher: A and A System Co., Ltd.; DigiKeyPartNumber: 336-1243-ND
footprint LQFP-32/e0.8 (LQFP-32; JEDEC MS-026BBA; Body 7.00x7.00x1.60mm; Pitch 0.8mm;)
pins: 1 P1.3/CP1P (io), 2 P1.2/CP0O (io), 3 P1.1/~{CP0N} (io), 4 P1.0/CP0P (io), 6 XTI (in), 7 XTO (out), 8 3.3DVDD (power), 9 DGND (power), 10 ~{RST} (in), 11 P2.4 (io), 12 P2.5 (io), 13 P2.3/~{SS} (io), 14 P2.2/MOSI (io), 15 P2.1/MISO (io), 16 P2.0/SCK (io), 17 TCK (in), 18 TMS (in), 19 TDO (out), 20 TDI (in), 21 P0.7/T2EX (io), 22 P0.6/T2 (io), 23 P0.5/T1 (io), 24 P0.4/T0 (io), 25 P0.3/INT1 (io), 26 P0.2/INT0 (io), 27 P0.1/RX (io), 28 P0.0/TX (io), 29 P1.7 (io), 30 P1.6/SYSCLK (io), 31 P1.5/CP1O (io), 32 P1.4/~{CP1N} (io)

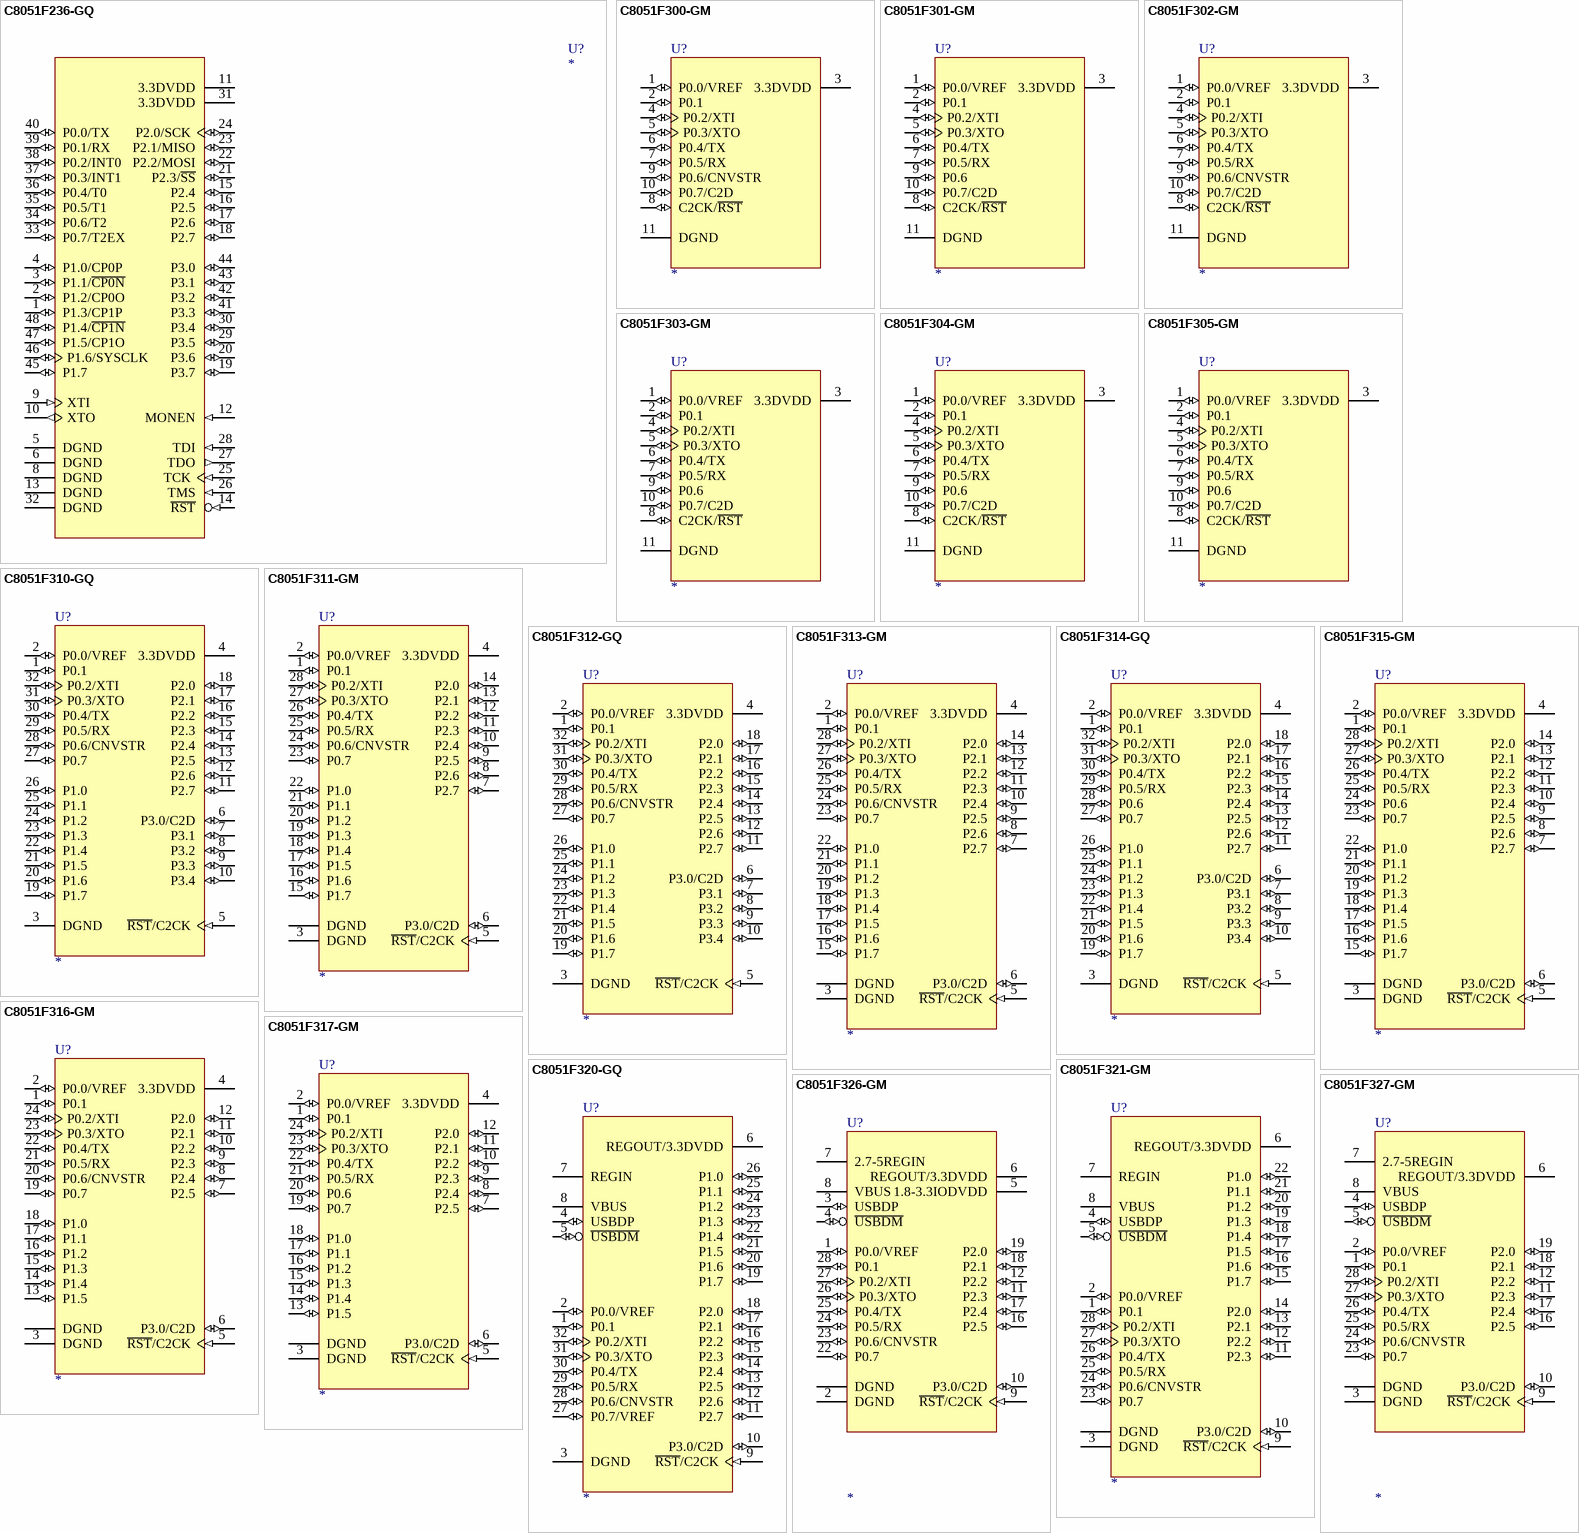
[diagram p11: symbols C8051F236-GQ to C8051F327-GM]

## C8051F236-GQ
designator U?
8051 Microcontroller, 25MIPS, 8KiB Flash, 256Byte RAM + 1KiB XRAM, Internal Oscillator, 3-16bit Timer, UART, SPI, 2 Comparator, 32GPIO.; Manufacture: Silicon Laboratories; Compliant: RoHS; CompliantInformationSource: Silicon Laboratries; PackageDocument: 2005-03; TempertureRange: Industrial (-40 to +85Cel); ComponentLink1Description: Manufacture Link; ComponentLink1URL: http://www.silabs.com/; ComponentLink2Description: Datasheet; ComponentLink2URL: https://www.silabs.com/Support Documents/TechnicalDocs/C8051F0xx.pdf; DatasheetDocument: Rev. 1.6, 2005-03; PackageReference: TQFP-48; Published: 2008-09-17; Publisher: A and A System Co., Ltd.; DigiKeyPartNumber: 336-1244-ND
footprint TQFP-48/e0.5 (TQFP-48; JEDEC MS-026ABC; Body 7.00x7.00x1.20mm; Pitch 0.5mm;)
pins: 1 P1.3/CP1P (io), 2 P1.2/CP0O (io), 3 P1.1/~{CP0N} (io), 4 P1.0/CP0P (io), 5 DGND (power), 6 DGND (power), 8 DGND (power), 9 XTI (in), 10 XTO (out), 11 3.3DVDD (power), 12 MONEN (in), 13 DGND (power), 14 ~{RST} (in), 15 P2.4 (io), 16 P2.5 (io), 17 P2.6 (io), 18 P2.7 (io), 19 P3.7 (io), 20 P3.6 (io), 21 P2.3/~{SS} (io), 22 P2.2/MOSI (io), 23 P2.1/MISO (io), 24 P2.0/SCK (io), 25 TCK (in), 26 TMS (in), 27 TDO (out), 28 TDI (in), 29 P3.5 (io), 30 P3.4 (io), 31 3.3DVDD (power), 32 DGND (power), 33 P0.7/T2EX (io), 34 P0.6/T2 (io), 35 P0.5/T1 (io), 36 P0.4/T0 (io), 37 P0.3/INT1 (io), 38 P0.2/INT0 (io), 39 P0.1/RX (io), 40 P0.0/TX (io), 41 P3.3 (io), 42 P3.2 (io), 43 P3.1 (io), 44 P3.0 (io), 45 P1.7 (io), 46 P1.6/SYSCLK (io), 47 P1.5/CP1O (io), 48 P1.4/~{CP1N} (io)

## C8051F300-GM
designator U?
8051 Microcontroller, 25MIPS, 8KiB Flash, 256Byte RAM, 24.5MHz +/-2% Internal Oscillator, 3-16bit Timer, 8CH 500ksps 8bit ADC, UART, I2C, PCA, Comparator, 8GPIO.; Manufacture: Silicon Laboratories; Compliant: RoHS; CompliantInformationSource: Silicon Laboratries; PackageDocument: 2005-04; TempertureRange: Industrial (-40 to +85Cel); ComponentLink1Description: Manufacture Link; ComponentLink1URL: http://www.silabs.com/; ComponentLink2Description: Datasheet; ComponentLink2URL: https://www.silabs.com/Support Documents/TechnicalDocs/C8051F30x.pdf; DatasheetDocument: Rev. 2.8, 2006-06; PackageReference: QFN-11; Published: 2006-02-17; DigiKeyPartNumber: 336-1245-ND; Publisher: A and A System Co., Ltd.
footprint SILABS/QFN-11/W3/E0.5 (SiLabs Specific; QFN-11; Body 3.00x3.00x0.90mm; Pitch 0.5mm)
pins: 1 P0.0/VREF (io) "External Voltage Reference Input. Port 0.0.", 2 P0.1 (io) "Port 0.1.", 3 3.3DVDD (power) "3.3V Digital Power Supply", 4 P0.2/XTI (io) "Crystal Input. This pin is the external oscillator circuit return for a crystal or ceramic resonator. Port 0.2.", 5 P0.3/XTO (io) "Crystal Input/Output. For an external crystal or resonator, this pin is the excitation driver. This pin is the external clock input for CMOS, capacitor, or RC network configurations. Port 0.3.", 6 P0.4/TX (io) "port 0.4.", 7 P0.5/RX (io) "Port 0.5.", 8 C2CK/~{RST} (io) "Clock signal for the C2 Development Interface. Device Reset. Open-drain output of internal POR or VDD monitor. An external source can initiate a system reset by driving this pin low for at least 10us.", 9 P0.6/CNVSTR (io) "Port 0.6. ADC External Convert Start Input Strobe.", 10 P0.7/C2D (io) "Port 0.7. Data signal for the C2 Development Interface.", 11 DGND (power) "Digital Power Ground"

## C8051F301-GM
designator U?
8051 Microcontroller, 25MIPS, 8KiB Flash, 256Byte RAM, 24.5MHz +/-2% Internal Oscillator, 3-16bit Timer, UART, I2C, PCA, Comparator, 8GPIO.; Manufacture: Silicon Laboratories; Compliant: RoHS; CompliantInformationSource: Silicon Laboratries; PackageDocument: 2005-04; TempertureRange: Industrial (-40 to +85Cel); ComponentLink1Description: Manufacture Link; ComponentLink1URL: http://www.silabs.com/; ComponentLink2Description: Datasheet; ComponentLink2URL: https://www.silabs.com/Support Documents/TechnicalDocs/C8051F30x.pdf; DatasheetDocument: Rev. 2.8, 2006-06; PackageReference: QFN-11; Published: 2006-02-17; DigiKeyPartNumber: 336-1247-ND; Publisher: A and A System Co., Ltd.
footprint SILABS/QFN-11/W3/E0.5 (SiLabs Specific; QFN-11; Body 3.00x3.00x0.90mm; Pitch 0.5mm)
pins: 1 P0.0/VREF (io) "External Voltage Reference Input. Port 0.0.", 2 P0.1 (io) "Port 0.1.", 3 3.3DVDD (power) "3.3V Digital Power Supply", 4 P0.2/XTI (io) "Crystal Input. This pin is the external oscillator circuit return for a crystal or ceramic resonator. Port 0.2.", 5 P0.3/XTO (io) "Crystal Input/Output. For an external crystal or resonator, this pin is the excitation driver. This pin is the external clock input for CMOS, capacitor, or RC network configurations. Port 0.3.", 6 P0.4/TX (io) "port 0.4.", 7 P0.5/RX (io) "Port 0.5.", 8 C2CK/~{RST} (io) "Clock signal for the C2 Development Interface. Device Reset. Open-drain output of internal POR or VDD monitor. An external source can initiate a system reset by driving this pin low for at least 10us.", 9 P0.6 (io) "Port 0.6. ADC External Convert Start Input Strobe.", 10 P0.7/C2D (io) "Port 0.7. Data signal for the C2 Development Interface.", 11 DGND (power) "Digital Power Ground"

## C8051F302-GM
designator U?
8051 Microcontroller, 25MIPS, 8KiB Flash, 256Byte RAM, Internal Oscillator, 3-16bit Timer, 8CH 500ksps 8bit ADC, UART, I2C, PCA, Comparator, 8GPIO.; Manufacture: Silicon Laboratories; Compliant: RoHS; CompliantInformationSource: Silicon Laboratries; PackageDocument: 2005-04; TempertureRange: Industrial (-40 to +85Cel); ComponentLink1Description: Manufacture Link; ComponentLink1URL: http://www.silabs.com/; ComponentLink2Description: Datasheet; ComponentLink2URL: https://www.silabs.com/Support Documents/TechnicalDocs/C8051F30x.pdf; DatasheetDocument: Rev. 2.8, 2006-06; PackageReference: QFN-11; Published: 2006-02-17; DigiKeyPartNumber: 336-1248-ND; Publisher: A and A System Co., Ltd.
footprint SILABS/QFN-11/W3/E0.5 (SiLabs Specific; QFN-11; Body 3.00x3.00x0.90mm; Pitch 0.5mm)
pins: 1 P0.0/VREF (io) "External Voltage Reference Input. Port 0.0.", 2 P0.1 (io) "Port 0.1.", 3 3.3DVDD (power) "3.3V Digital Power Supply", 4 P0.2/XTI (io) "Crystal Input. This pin is the external oscillator circuit return for a crystal or ceramic resonator. Port 0.2.", 5 P0.3/XTO (io) "Crystal Input/Output. For an external crystal or resonator, this pin is the excitation driver. This pin is the external clock input for CMOS, capacitor, or RC network configurations. Port 0.3.", 6 P0.4/TX (io) "port 0.4.", 7 P0.5/RX (io) "Port 0.5.", 8 C2CK/~{RST} (io) "Clock signal for the C2 Development Interface. Device Reset. Open-drain output of internal POR or VDD monitor. An external source can initiate a system reset by driving this pin low for at least 10us.", 9 P0.6/CNVSTR (io) "Port 0.6. ADC External Convert Start Input Strobe.", 10 P0.7/C2D (io) "Port 0.7. Data signal for the C2 Development Interface.", 11 DGND (power) "Digital Power Ground"

## C8051F303-GM
designator U?
8051 Microcontroller, 25MIPS, 8KiB Flash, 256Byte RAM, Internal Oscillator, 3-16bit Timer, UART, I2C, PCA, Comparator, 8GPIO.; Manufacture: Silicon Laboratories; Compliant: RoHS; CompliantInformationSource: Silicon Laboratries; PackageDocument: 2005-04; TempertureRange: Industrial (-40 to +85Cel); ComponentLink1Description: Manufacture Link; ComponentLink1URL: http://www.silabs.com/; ComponentLink2Description: Datasheet; ComponentLink2URL: https://www.silabs.com/Support Documents/TechnicalDocs/C8051F30x.pdf; DatasheetDocument: Rev. 2.8, 2006-06; PackageReference: QFN-11; Published: 2006-02-17; DigiKeyPartNumber: 336-1249-ND; Publisher: A and A System Co., Ltd.
footprint SILABS/QFN-11/W3/E0.5 (SiLabs Specific; QFN-11; Body 3.00x3.00x0.90mm; Pitch 0.5mm)
pins: 1 P0.0/VREF (io) "External Voltage Reference Input. Port 0.0.", 2 P0.1 (io) "Port 0.1.", 3 3.3DVDD (power) "3.3V Digital Power Supply", 4 P0.2/XTI (io) "Crystal Input. This pin is the external oscillator circuit return for a crystal or ceramic resonator. Port 0.2.", 5 P0.3/XTO (io) "Crystal Input/Output. For an external crystal or resonator, this pin is the excitation driver. This pin is the external clock input for CMOS, capacitor, or RC network configurations. Port 0.3.", 6 P0.4/TX (io) "port 0.4.", 7 P0.5/RX (io) "Port 0.5.", 8 C2CK/~{RST} (io) "Clock signal for the C2 Development Interface. Device Reset. Open-drain output of internal POR or VDD monitor. An external source can initiate a system reset by driving this pin low for at least 10us.", 9 P0.6 (io) "Port 0.6. ADC External Convert Start Input Strobe.", 10 P0.7/C2D (io) "Port 0.7. Data signal for the C2 Development Interface.", 11 DGND (power) "Digital Power Ground"

## C8051F304-GM
designator U?
8051 Microcontroller, 25MIPS, 4KiB Flash, 256Byte RAM, Internal Oscillator, 3-16bit Timer, UART, I2C, PCA, Comparator, 8GPIO.; Manufacture: Silicon Laboratories; Compliant: RoHS; CompliantInformationSource: Silicon Laboratries; PackageDocument: 2005-04; TempertureRange: Industrial (-40 to +85Cel); ComponentLink1Description: Manufacture Link; ComponentLink1URL: http://www.silabs.com/; ComponentLink2Description: Datasheet; ComponentLink2URL: https://www.silabs.com/Support Documents/TechnicalDocs/C8051F30x.pdf; DatasheetDocument: Rev. 2.8, 2006-06; PackageReference: QFN-11; Published: 2006-02-17; DigiKeyPartNumber: 336-1250-ND; Publisher: A and A System Co., Ltd.
footprint SILABS/QFN-11/W3/E0.5 (SiLabs Specific; QFN-11; Body 3.00x3.00x0.90mm; Pitch 0.5mm)
pins: 1 P0.0/VREF (io) "External Voltage Reference Input. Port 0.0.", 2 P0.1 (io) "Port 0.1.", 3 3.3DVDD (power) "3.3V Digital Power Supply", 4 P0.2/XTI (io) "Crystal Input. This pin is the external oscillator circuit return for a crystal or ceramic resonator. Port 0.2.", 5 P0.3/XTO (io) "Crystal Input/Output. For an external crystal or resonator, this pin is the excitation driver. This pin is the external clock input for CMOS, capacitor, or RC network configurations. Port 0.3.", 6 P0.4/TX (io) "port 0.4.", 7 P0.5/RX (io) "Port 0.5.", 8 C2CK/~{RST} (io) "Clock signal for the C2 Development Interface. Device Reset. Open-drain output of internal POR or VDD monitor. An external source can initiate a system reset by driving this pin low for at least 10us.", 9 P0.6 (io) "Port 0.6. ADC External Convert Start Input Strobe.", 10 P0.7/C2D (io) "Port 0.7. Data signal for the C2 Development Interface.", 11 DGND (power) "Digital Power Ground"

## C8051F305-GM
designator U?
8051 Microcontroller, 25MIPS, 2KiB Flash, 256Byte RAM, Internal Oscillator, 3-16bit Timer, UART, I2C, PCA, Comparator, 8GPIO.; Manufacture: Silicon Laboratories; Compliant: RoHS; CompliantInformationSource: Silicon Laboratries; PackageDocument: 2005-04; TempertureRange: Industrial (-40 to +85Cel); ComponentLink1Description: Manufacture Link; ComponentLink1URL: http://www.silabs.com/; ComponentLink2Description: Datasheet; ComponentLink2URL: https://www.silabs.com/Support Documents/TechnicalDocs/C8051F30x.pdf; DatasheetDocument: Rev. 2.8, 2006-06; PackageReference: QFN-11; Published: 2006-02-17; DigiKeyPartNumber: 336-1251-ND; Publisher: A and A System Co., Ltd.
footprint SILABS/QFN-11/W3/E0.5 (SiLabs Specific; QFN-11; Body 3.00x3.00x0.90mm; Pitch 0.5mm)
pins: 1 P0.0/VREF (io) "External Voltage Reference Input. Port 0.0.", 2 P0.1 (io) "Port 0.1.", 3 3.3DVDD (power) "3.3V Digital Power Supply", 4 P0.2/XTI (io) "Crystal Input. This pin is the external oscillator circuit return for a crystal or ceramic resonator. Port 0.2.", 5 P0.3/XTO (io) "Crystal Input/Output. For an external crystal or resonator, this pin is the excitation driver. This pin is the external clock input for CMOS, capacitor, or RC network configurations. Port 0.3.", 6 P0.4/TX (io) "port 0.4.", 7 P0.5/RX (io) "Port 0.5.", 8 C2CK/~{RST} (io) "Clock signal for the C2 Development Interface. Device Reset. Open-drain output of internal POR or VDD monitor. An external source can initiate a system reset by driving this pin low for at least 10us.", 9 P0.6 (io) "Port 0.6. ADC External Convert Start Input Strobe.", 10 P0.7/C2D (io) "Port 0.7. Data signal for the C2 Development Interface.", 11 DGND (power) "Digital Power Ground"

## C8051F310-GQ
designator U?
8051 Microcontroller, 25MIPS, 16KiB Flash, 256Byte RAM + 1KiB XRAM, 24.5MHz +/-2% Internal Oscillator, 4-16bit Timer, 21CH 200ksps 10bit ADC, UART, I2C, SPI, PCA, 2 Comparator, 29GPIO.; Manufacture: Silicon Laboratories; Compliant: RoHS; CompliantInformationSource: Silicon Laboratries; PackageDocument: 2006-08; TempertureRange: Industrial (-40 to +85Cel); ComponentLink1Description: Manufacture Link; ComponentLink1URL: http://www.silabs.com/; ComponentLink2Description: Datasheet; ComponentLink2URL: https://www.silabs.com/Support Documents/TechnicalDocs/C8051F31x.pdf; DatasheetDocument: Rev. 1.7, 2006-08; PackageReference: LQFP-32; Published: 2008-09-16; Publisher: A and A System Co., Ltd.; DigiKeyPartNumber: 336-1252-ND
footprint LQFP-32/e0.8 (LQFP-32; Body Width 10mm; Pitch 0.8mm)
pins: 1 P0.1 (io) "Port 0.1.", 2 P0.0/VREF (io) "Port 0.0/External Voltage Reference", 3 DGND (power) "Digital Power Ground", 4 3.3DVDD (power) "3.3V Digital Power Supply.", 5 ~{RST}/C2CK (in) "Reset Input/C2 Debug IF Clock Input.", 6 P3.0/C2D (io) "Port 0.3/C2 Debug IF Data IO.", 7 P3.1 (io) "Port 3.1.", 8 P3.2 (io) "Port 3.2.", 9 P3.3 (io) "Port 3.3.", 10 P3.4 (io) "Port 3.4.", 11 P2.7 (io) "Port 2.7.", 12 P2.6 (io) "Port 2.6.", 13 P2.5 (io) "Port 2.5.", 14 P2.4 (io) "Port 2.4.", 15 P2.3 (io) "Port 2.3.", 16 P2.2 (io) "Port 2.2.", 17 P2.1 (io) "Port 2.1.", 18 P2.0 (io) "Port 2.0.", 19 P1.7 (io) "Port 1.7.", 20 P1.6 (io) "Port 1.6.", 21 P1.5 (io) "Port 1.5.", 22 P1.4 (io) "Port 1.4.", 23 P1.3 (io) "Port 1.3.", 24 P1.2 (io) "Port 1.2.", 25 P1.1 (io) "Port 1.1", 26 P1.0 (io) "Port 1.0", 27 P0.7 (io) "Port 0.7.", 28 P0.6/CNVSTR (io) "Port 0.6/ADC0 External Converter Start Input.", 29 P0.5/RX (io) "Port 0.5.", 30 P0.4/TX (io) "Port 0.4.", 31 P0.3/XTO (io) "Port 0.3/External Clock Output.", 32 P0.2/XTI (io) "Port 0.2/External Clock Input."

## C8051F311-GM
designator U?
8051 Microcontroller, 25MIPS, 16KiB Flash, 256Byte RAM + 1KiB XRAM, 24.5MHz +/-2% Internal Oscillator, 4-16bit Timer, 21CH 200ksps 10bit ADC, UART, I2C, SPI, PCA, 2 Comparator, 25GPIO.; Manufacture: Silicon Laboratories; Compliant: RoHS; CompliantInformationSource: Silicon Laboratries; PackageDocument: 2006-08; TempertureRange: Industrial (-40 to +85Cel); ComponentLink1Description: Manufacture Link; ComponentLink1URL: http://www.silabs.com/; ComponentLink2Description: Datasheet; ComponentLink2URL: https://www.silabs.com/Support Documents/TechnicalDocs/C8051F31x.pdf; DatasheetDocument: Rev. 1.7, 2006-08; PackageReference: QFN-28; Published: 2008-09-16; Publisher: A and A System Co., Ltd.; DigiKeyPartNumber: 336-1254-ND
footprint SILABS/QFN-28/W5/E0.5 (SiLabs Specific; QFN-28; Body 5.00x5.00x0.90mm; Pitch 0.5mm)
pins: 1 P0.1 (io) "Port 0.1.", 2 P0.0/VREF (io) "Port 0.0/External Voltage Reference", 3 DGND (power) "Digital Power Ground", 4 3.3DVDD (power) "3.3V Digital Power Supply.", 5 ~{RST}/C2CK (in) "Reset Input/C2 Debug IF Clock Input.", 6 P3.0/C2D (io) "Port 0.3/C2 Debug IF Data IO.", 7 P2.7 (io) "Port 2.7.", 8 P2.6 (io) "Port 2.6.", 9 P2.5 (io) "Port 2.5.", 10 P2.4 (io) "Port 2.4.", 11 P2.3 (io) "Port 2.3.", 12 P2.2 (io) "Port 2.2.", 13 P2.1 (io) "Port 2.1.", 14 P2.0 (io) "Port 2.0.", 15 P1.7 (io) "Port 1.7.", 16 P1.6 (io) "Port 1.6.", 17 P1.5 (io) "Port 1.5.", 18 P1.4 (io) "Port 1.4.", 19 P1.3 (io) "Port 1.3.", 20 P1.2 (io) "Port 1.2.", 21 P1.1 (io) "Port 1.1", 22 P1.0 (io) "Port 1.0", 23 P0.7 (io) "Port 0.7.", 24 P0.6/CNVSTR (io) "Port 0.6/ADC0 External Converter Start Input.", 25 P0.5/RX (io) "Port 0.5.", 26 P0.4/TX (io) "Port 0.4.", 27 P0.3/XTO (io) "Port 0.3/External Clock Output.", 28 P0.2/XTI (io) "Port 0.2/External Clock Input.", TPAD DGND (power)